# EAGLE library part RN-42 (library TuansLib)
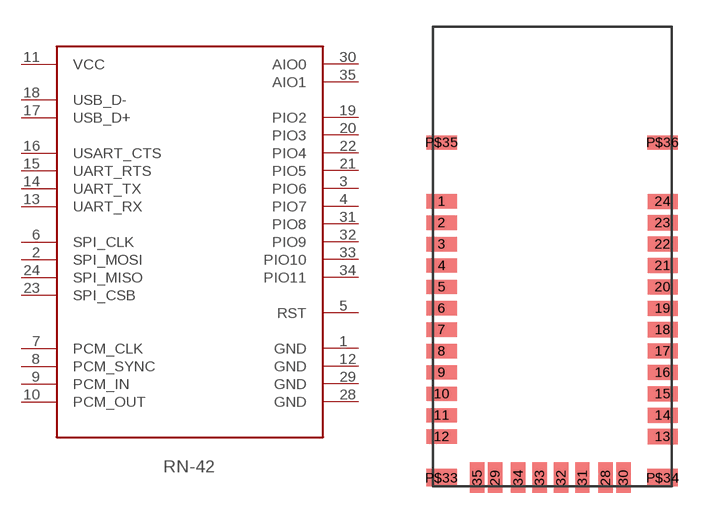
[diagram p11: symbol with the pads of RN-42; footprint RN-42]

Designator prefix -

## RN-42  [RN-42]
1  GND
2  SPI_MOSI
3  PIO6
4  PIO7
5  RST
6  SPI_CLK
7  PCM_CLK
8  PCM_SYNC
9  PCM_IN
10  PCM_OUT
11  VCC
12  GND
13  UART_RX
14  UART_TX
15  UART_RTS
16  USART_CTS
17  USB_D+
18  USB_D-
19  PIO2
20  PIO3
21  PIO5
22  PIO4
23  SPI_CSB
24  SPI_MISO
28  GND
29  GND
30  AIO0
31  PIO8
32  PIO9
33  PIO10
34  PIO11
35  AIO1

## Footprint RN-42 (pad centres in mm)
smd 1.7 x 0.8: 1 0.5,16; 2 0.5,14.8; 3 0.5,13.6; 4 0.5,12.4; 5 0.5,11.2; 6 0.5,10; 7 0.5,8.8; 8 0.5,7.6; 9 0.5,6.4; 10 0.5,5.2; 11 0.5,4; 12 0.5,2.8; 13 12.9,2.8; 14 12.9,4; 15 12.9,5.2; 16 12.9,6.4; 17 12.9,7.6; 18 12.9,8.8; 19 12.9,10; 20 12.9,11.2; 21 12.9,12.4; 22 12.9,13.6; 23 12.9,14.8; 24 12.9,16; P$35 0.5,19.3; P$36 12.9,19.3
smd 0.8 x 1.7: 28 9.7,0.5; 29 3.5,0.5; 30 10.7,0.5; 31 8.4,0.5; 32 7.2,0.5; 33 6,0.5; 34 4.8,0.5; 35 2.5,0.5
smd 1.7 x 1: P$33 0.5,0.5; P$34 12.9,0.5